# Altium schematic symbol library LoRa_module_Lib.SchLib: 1 symbol
Pins are listed as number, name and electrical type; pins without a type are passive.

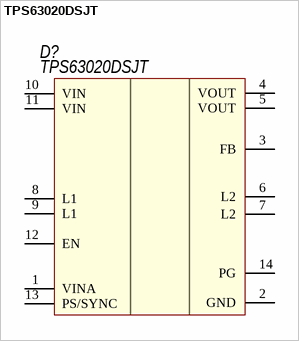
[diagram p0: symbol TPS63020DSJT]

## TPS63020DSJT
designator D?
DC-DC StepUp; Manufacture: Texas Instruments; Model: TPS63020DSJT; Case: VSON (14); Help URL: *
pins: 1 VINA, 2 GND, 3 FB, 4 VOUT, 5 VOUT, 6 L2, 7 L2, 8 L1, 9 L1, 10 VIN, 11 VIN, 12 EN, 13 PS/SYNC, 14 PG